# Altium footprint library NodeController.PcbLib: 10 footprints
Each footprint in its own frame and in the unit in brackets; x right, y up, seen from the top. Pads: shape width x height; smd on the part's side, far side on the other; paste and mask are expansions set on the pad; w line width, h text height; cw(c..) or ccw(c..) is an arc to the next point about the centre after c.
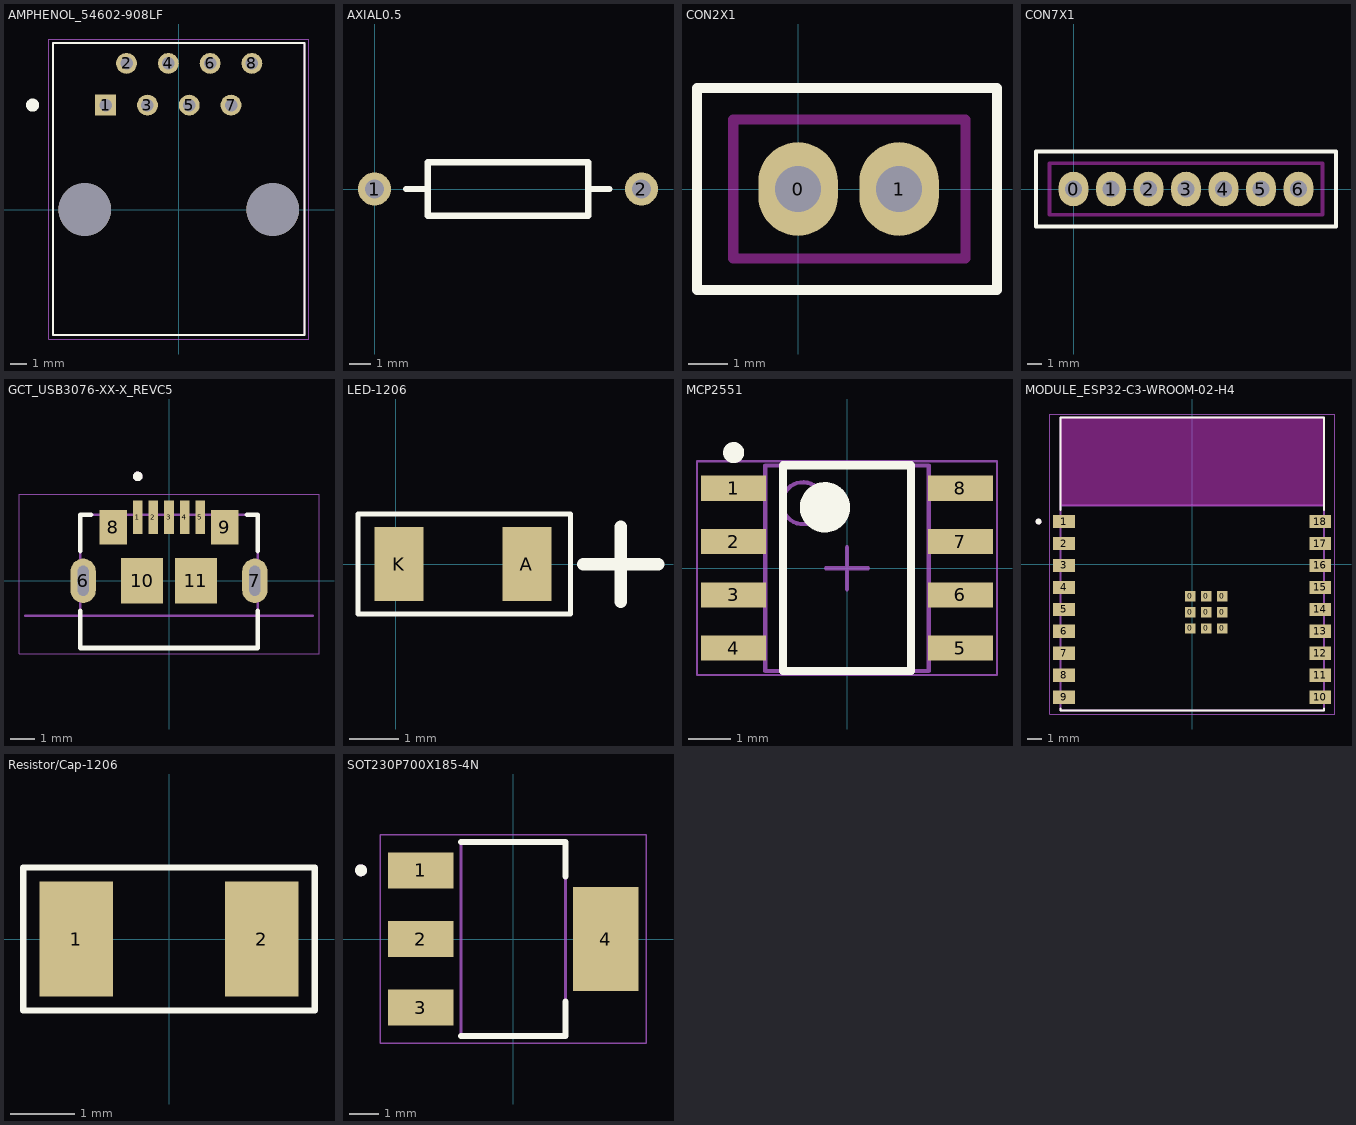
[diagram p0: the footprints below, top view; thin cyan lines are the x and y axes]

## AMPHENOL_54602-908LF [mm]
pads (10):
  rect 1.268x1.268 / inner round 1.268 / far side rect 1.268x1.268 hole 0.76: 1(-4.445,6.35)
  round 1.268 hole 0.76: 2(-3.175,8.89) 3(-1.905,6.35) 4(-0.635,8.89) 5(0.635,6.35) 6(1.905,8.89) 7(3.175,6.35) 8(4.445,8.89)
  round 3.2 hole 3.2 unplated: ""(-5.715,0) ""(5.715,0)
Top Overlay:
  circle w0.4: c-8.89,6.35 r0.2
  lines w0.127: -7.65,-7.62 -7.65,10.12 7.65,10.12 7.65,-7.62 -7.65,-7.62
Mechanical 13:
  lines w0.127: -7.65,-7.62 -7.65,10.12 7.65,10.12 7.65,-7.62 -7.65,-7.62
Mechanical 15:
  lines w0.05: -7.9,-7.87 -7.9,10.37 7.9,10.37 7.9,-7.87 -7.9,-7.87
3D body "step_temp.STEP": height 12.7, standoff -3.5, extent -7.65,-7.62 7.65,10.12

## AXIAL0.5 [mil]
pads (2):
  round 62 hole 35.47: 1(0,0) 2(500,0)
Top Overlay:
  lines w12: 59,0 100,0 ; 401,0 440,0 ; 100,-50 100,50 400,50 400,-50 100,-50

## CON2X1 [mm] "2.54mm based header"
pads (2):
  oval 2x2.35 hole 1.15: 0(0,0) 1(2.54,0)
Top Overlay:
  lines w0.254: -2.54,-2.54 -2.54,2.54 5,2.54 5,-2.54 -2.54,-2.54
Keep-Out Layer:
  lines w0.254: -1.63,-1.75 -1.63,1.75 4.21,1.75 4.21,-1.75 -1.63,-1.75

## CON7X1 [mm] "2.54mm based header"
pads (7):
  oval 2x2.35 hole 1.15: 0(0,0) 1(2.54,0) 2(5.08,0) 3(7.62,0) 4(10.16,0) 5(12.7,0) 6(15.24,0)
Top Overlay:
  lines w0.254: -2.54,-2.54 -2.54,2.54 17.78,2.54 17.78,-2.54 -2.54,-2.54
Keep-Out Layer:
  lines w0.254: -1.63,-1.75 -1.63,1.75 16.87,1.75 16.87,-1.75 -1.63,-1.75

## GCT_USB3076-XX-X_REVC5 [mm]
height 2.66
pads (11):
  rect 0.4x1.4 smd: 1(-1.3,2.65) 2(-0.65,2.65) 3(0,2.65) 4(0.65,2.65) 5(1.3,2.65)
  oval 1.05x1.85 hole 0.45 slot 1.252 at 90 deg: 6(-3.575,0) 7(3.575,0)
  rect 1.15x1.45 smd: 8(-2.32,2.23) 9(2.32,2.23)
  rect 1.75x1.9 smd: 10(-1.125,0) 11(1.125,0)
Top Overlay:
  circle w0.2: c-1.3,4.35 r0.1
  lines w0.2: -3.7,-1.245 -3.7,-2.8 3.7,-2.8 3.7,-1.245 ; -3.7,1.245 -3.7,2.75 -3.245,2.75 ; 3.245,2.75 3.7,2.75 3.7,1.245
Mechanical 13:
  circle w0.2: c-1.3,4.35 r0.1
  lines w0.1: -6,-1.45 6,-1.45 ; -3.7,-2.8 -3.7,2.75 3.7,2.75 3.7,-2.8 -3.7,-2.8
Mechanical 15:
  lines w0.05: -6.25,-3.05 6.25,-3.05 6.25,3.6 -6.25,3.6 -6.25,-3.05
3D body "step_temp.STEP": height 2.66, standoff -1, extent -3.7,-2.775 3.7,2.775

## LED-1206 [mm]
pads (2):
  rect 1x1.5 smd: A(2.67,0) K(0.074,0)
Top Overlay:
  lines w0.1: -0.762,-1.016 -0.762,1.016 3.556,1.016 3.556,-1.016 -0.762,-1.016
  lines w0.254: 3.81,0 5.334,0 ; 4.572,-0.762 4.572,0.762

## MCP2551 [mm] "SOIC, 8-Leads, Body 4.9x3.9mm, Pitch 1.27mm"
height 1.75
pads (8):
  rect 1.55x0.6 smd: 1(-2.7,1.905) 2(-2.7,0.635) 3(-2.7,-0.635) 4(-2.7,-1.905) 5(2.7,-1.905) 6(2.7,-0.635) 7(2.7,0.635) 8(2.7,1.905)
Top Overlay:
  circle w0.6: c-0.525,1.45 r0.3
  circle w0.25: c-2.7,2.755 r0.125
  lines w0.2: -1.525,-2.45 1.525,-2.45 1.525,2.45 -1.525,2.45 -1.525,-2.45
Mechanical 13:
  circle w0.1: c-1.05,1.55 r0.5
  lines w0.1: -1.95,-2.45 1.95,-2.45 1.95,2.45 -1.95,2.45 -1.95,-2.45
Mechanical 15:
  lines w0.05: -3.575,-2.55 3.575,-2.55 3.575,2.55 -3.575,2.55 -3.575,-2.55
  lines w0.1: -0.5,0 0.5,0 ; 0,-0.5 0,0.5
3D body "MCHP-SOIC-8_V.step": height 1.75, standoff 0, extent -3,-2.45 3,2.45

## MODULE_ESP32-C3-WROOM-02-H4 [mm]
pads (27):
  rect 0.7x0.7 smd: 0(-0.14,-4.4) 0(-0.14,-3.3) 0(-0.14,-2.2) 0(0.96,-4.4) 0(0.96,-3.3) 0(0.96,-2.2) 0(2.06,-4.4) 0(2.06,-3.3) 0(2.06,-2.2)
  rect 1.5x0.9 smd: 1(-8.75,2.9) 2(-8.75,1.4) 3(-8.75,-0.1) 4(-8.75,-1.6) 5(-8.75,-3.1) 6(-8.75,-4.6) 7(-8.75,-6.1) 8(-8.75,-7.6) 9(-8.75,-9.1) 10(8.75,-9.1) 11(8.75,-7.6) 12(8.75,-6.1) 13(8.75,-4.6) 14(8.75,-3.1) 15(8.75,-1.6) 16(8.75,-0.1) 17(8.75,1.4) 18(8.75,2.9)
Top Overlay:
  circle w0.2: c-10.5,2.9 r0.1
  lines w0.127: -9,-9.87 -9,-10 9,-10 9,-9.87 ; -9,3.67 -9,10 9,10 9,3.67
Keep-Out Layer:
  region: 9,4 -9,4 -9,10 9,10
  region: 9,4 -9,4 -9,10 9,10
Mechanical 13:
  circle w0.2: c-10.5,2.9 r0.1
  lines w0.127: -9,4 9,4 ; -9,4 -9,-10 9,-10 9,4 ; -9,4 -9,10 9,10 9,4
Mechanical 15:
  lines w0.05: -9.75,-10.25 -9.75,10.25 9.75,10.25 9.75,-10.25 -9.75,-10.25
3D body "step_temp.STEP": height 3.35, standoff 0, extent -9,-10 9,10

## Resistor/Cap-1206 [mm]
pads (2):
  rect 1.15x1.8 smd: 1(-1.45,0) 2(1.45,0)
Top Overlay:
  lines w0.1: -2.286,-1.12 -2.286,1.12 2.286,1.12 2.286,-1.12 -2.286,-1.12

## SOT230P700X185-4N [mm]
height 1.85
pads (4):
  rect 2.2x1.2 smd: 1(-3.1,2.3) 2(-3.1,0) 3(-3.1,-2.3)
  rect 2.2x3.5 smd: 4(3.1,0)
Top Overlay:
  circle w0.2: c-5.1,2.3 r0.1
  lines w0.2: -1.75,-3.25 1.75,-3.25 1.75,-2.1 ; -1.75,3.25 1.75,3.25 1.75,2.1
Mechanical 13:
  circle w0.2: c-5.1,2.3 r0.1
  lines w0.1: -1.75,-3.25 -1.75,3.25 1.75,3.25 1.75,-3.25 -1.75,-3.25
Mechanical 15:
  lines w0.05: -4.45,-3.5 4.45,-3.5 4.45,3.5 -4.45,3.5 -4.45,-3.5
3D body "step_temp.STEP": height 1.65, standoff 0, extent -3.5,-3.25 3.5,3.25